# Altium schematic symbol library dm3bt-dsf-pejs.SchLib: 1 symbol
Pins are listed as number, name and electrical type; pins without a type are passive.

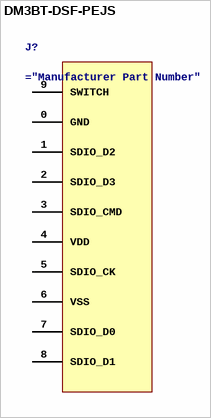
[diagram p0: symbol DM3BT-DSF-PEJS]

## DM3BT-DSF-PEJS
designator J?
CONN MICRO SD R/A PUSH-PUSH SMD
pins: 0 GND, 1 SDIO_D2, 2 SDIO_D3, 3 SDIO_CMD, 4 VDD, 5 SDIO_CK, 6 VSS, 7 SDIO_D0, 8 SDIO_D1, 9 SWITCH